# EAGLE library part PINHD_6X1F_SMD (library 1_domaci)
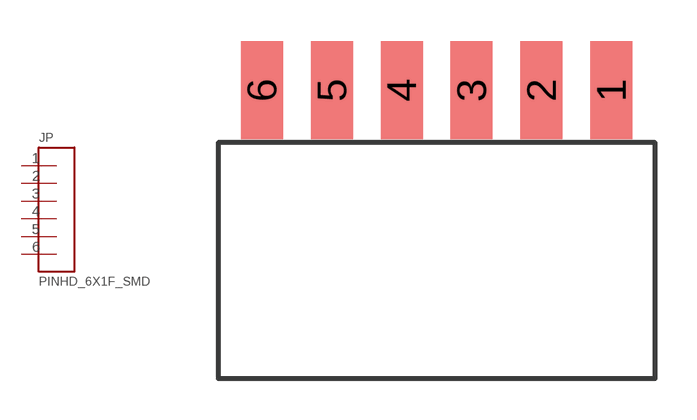
[diagram p6: symbol with the pads of PINHD-6X1-FEMALE-SMD; footprint PINHD-6X1-FEMALE-SMD]

Designator prefix JP

## PINHD_6X1F_SMD  [PINHD-6X1-FEMALE-SMD]
1  1
2  2
3  3
4  4
5  5
6  6

## Footprint PINHD-6X1-FEMALE-SMD (pad centres in mm)
smd 1.524 x 3.556: 1 6.35,6.35; 2 3.81,6.35; 3 1.27,6.35; 4 -1.27,6.35; 5 -3.81,6.35; 6 -6.35,6.35